# Altium footprint library PcbLib1.PcbLib: 4 footprints
Each footprint in its own frame and in the unit in brackets; x right, y up, seen from the top. Pads: shape width x height; smd on the part's side, far side on the other; paste and mask are expansions set on the pad; w line width, h text height; cw(c..) or ccw(c..) is an arc to the next point about the centre after c.
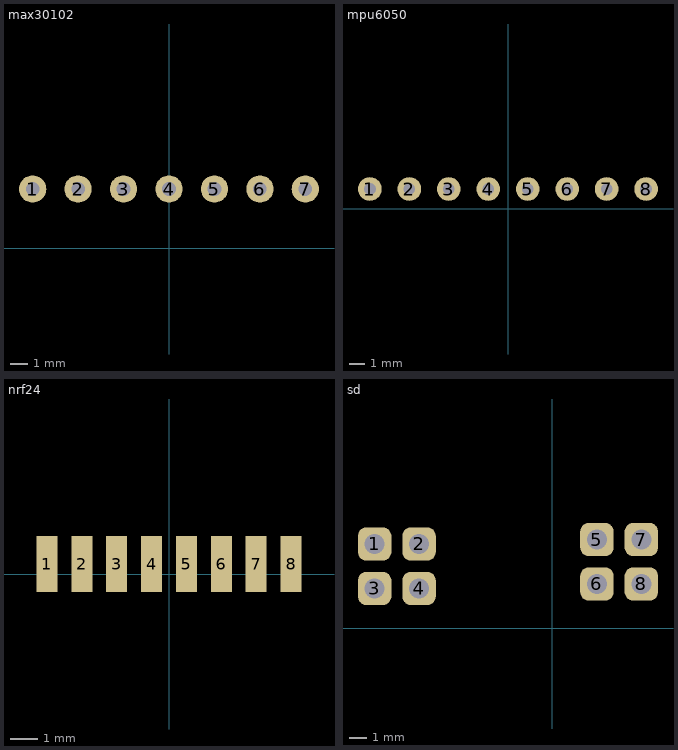
[diagram p0: the footprints below, top view; thin cyan lines are the x and y axes]

## max30102 [mil]
pads (7):
  round 60 hole 30: 1(-300,130) 2(-200,130) 3(-100,130) 4(0,130) 5(100,130) 6(200,130) 7(300,130)
3D body "max30102.STEP": height 130.42, standoff 0.5, extent -364.17,75 364.17,637.99

## mpu6050 [mil]
pads (8):
  round 60 hole 30: 1(-350,50) 2(-250,50) 3(-150,50) 4(-50,50) 5(50,50) 6(150,50) 7(250,50) 8(350,50)
3D body "MPU6050 Accelerometer.step": height 82.68, standoff -66.94, extent -413.39,0 413.39,629.92

## nrf24 [mil]
pads (8):
  rect 30x80 smd: 1(-175,15) 2(-125,15) 3(-75,15) 4(-25,15) 5(25,15) 6(75,15) 7(125,15) 8(175,15)
3D body "nRF24.STEP": height 89.37, standoff 0, extent -236.22,0 236.22,708.66

## sd [mil]
pads (8):
  rrect50% 75x75 hole 45 square: 1(-400,190) 2(-300,190) 3(-400,90) 4(-300,90) 5(100,200) 6(100,100) 7(200,200) 8(200,100)
3D body "SD Card Module Arduino.STEP": height 177.66, standoff -235.72, extent -610.24,0 610.24,2027.64